# Altium schematic symbol library GOST_lib_connectors.SchLib: 6 symbols
Pins are listed as number, name and electrical type; pins without a type are passive.

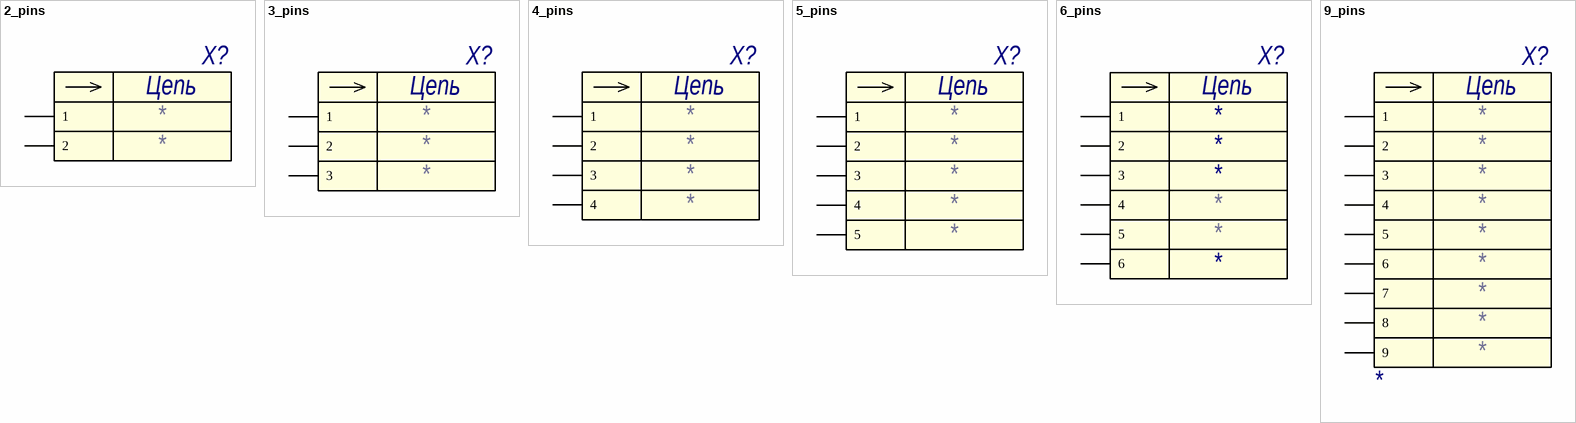
[diagram p0: symbols 2_pins to 9_pins]

## 2_pins
designator X?
HelpURL: *; Manufacture: *; Model: *; Case: *; 1: *; 2: *
pins: 1, 2
text: Цепь

## 3_pins
designator X?
Manufacture: *; Model: *; HelpURL: *; Case: *; 2: *; 3: *; 1: *
pins: 1, 2, 3
text: Цепь

## 4_pins
designator X?
Manufacture: *; Model: *; HelpURL: *; Case: *; 2: *; 3: *; 1: *; 4: *
pins: 1, 2, 3, 4
text: Цепь

## 5_pins
designator X?
HelpURL: *; Manufacture: *; Model: *; Case: *; 1: *; 2: *; 3: *; 4: *; 5: *
pins: 1, 2, 3, 4, 5
text: Цепь

## 6_pins
designator X?
HelpURL: *; Manufacture: *; Model: *; Case: *; 4: *; 5: *; 1: *; 2: *; 3: *; 6: *
pins: 1, 2, 3, 4, 5, 6
text: Цепь

## 9_pins
designator X?
Case: *; HelpURL: *; Manufacture: *; Model: *; 1: *; 2: *; 3: *; 4: *; 5: *; 6: *; 7: *; 8: *; 9: *
pins: 1, 2, 3, 4, 5, 6, 7 (power), 8 (power), 9 (power)
text: Цепь